# Altium schematic symbol library IC_other.SchLib: 3 symbols
Pins are listed as number, name and electrical type; pins without a type are passive.

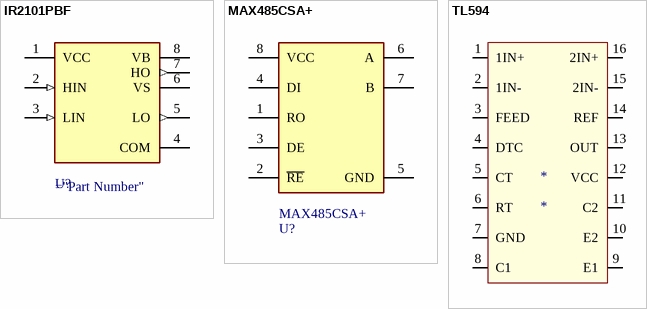
[diagram p0: symbols IR2101PBF to TL594]

## IR2101PBF
designator U?  (value not drawn)
footprint DIP8
pins: 1 VCC (power), 2 HIN (in), 3 LIN (in), 4 COM (power), 5 LO (out), 6 VS (power), 7 HO (out), 8 VB (power)

## MAX485CSA+
designator U?  Part Number: MAX485CSA+
IC TXRX RS485/RS422 LOWPWR 8SOIC; Manufacturer: Maxim Electronics; helpURL: https://upverter.com/upn/revision/9b9ac8077ab5223f/; ComponentLink2Description: Datasheet; Temperature: 0°C to +70°C; Package: SO8; Supplier 2: Mouser; Supplier 1: Digi-Key; ComponentLink1URL: https://upverter.com/upn/revision/9b9ac8077ab5223f/; Supplier Part Number 2: 700-MAX485CSA; Supplier Part Number 1: MAX485CSA+-ND; ComponentLink1Description: Upverter; ComponentLink2URL: https://datasheets.maximintegrated.com/en/ds/MAX1487-MAX491.pdf; RoHS: TRUE; Mouser Part Number: 700-MAX485CSA; Ipc Land Pattern Name: SOIC127P600X155-8; Temperature Range High: +70°C; Digikey Description: IC TXRX RS485/RS422 LOWPWR 8SOIC; Digikey Part Number: MAX485CSA+-ND; Lead Free: yes; Temperature Range Low: 0°C
footprint Maxim_Electronics_MAX485CSA+_0
pins: 1 RO, 2 ~{RE}, 3 DE, 4 DI, 5 GND, 6 A, 7 B, 8 VCC

## TL594
designator *
footprint DIP16 (DIP, 16-Leads, Body 19.7x6.6mm, Pitch 2.54mm)
pins: 1 1IN+, 2 1IN-, 3 FEED, 4 DTC, 5 CT, 6 RT, 7 GND, 8 C1, 9 E1, 10 E2, 11 C2, 12 VCC, 13 OUT, 14 REF, 15 2IN-, 16 2IN+